# Altium footprint library JP.PcbLib: 182 footprints (part 4 of 12)
Each footprint in its own frame and in the unit in brackets; x right, y up, seen from the top. Pads: shape width x height; smd on the part's side, far side on the other; paste and mask are expansions set on the pad; w line width, h text height; cw(c..) or ccw(c..) is an arc to the next point about the centre after c.
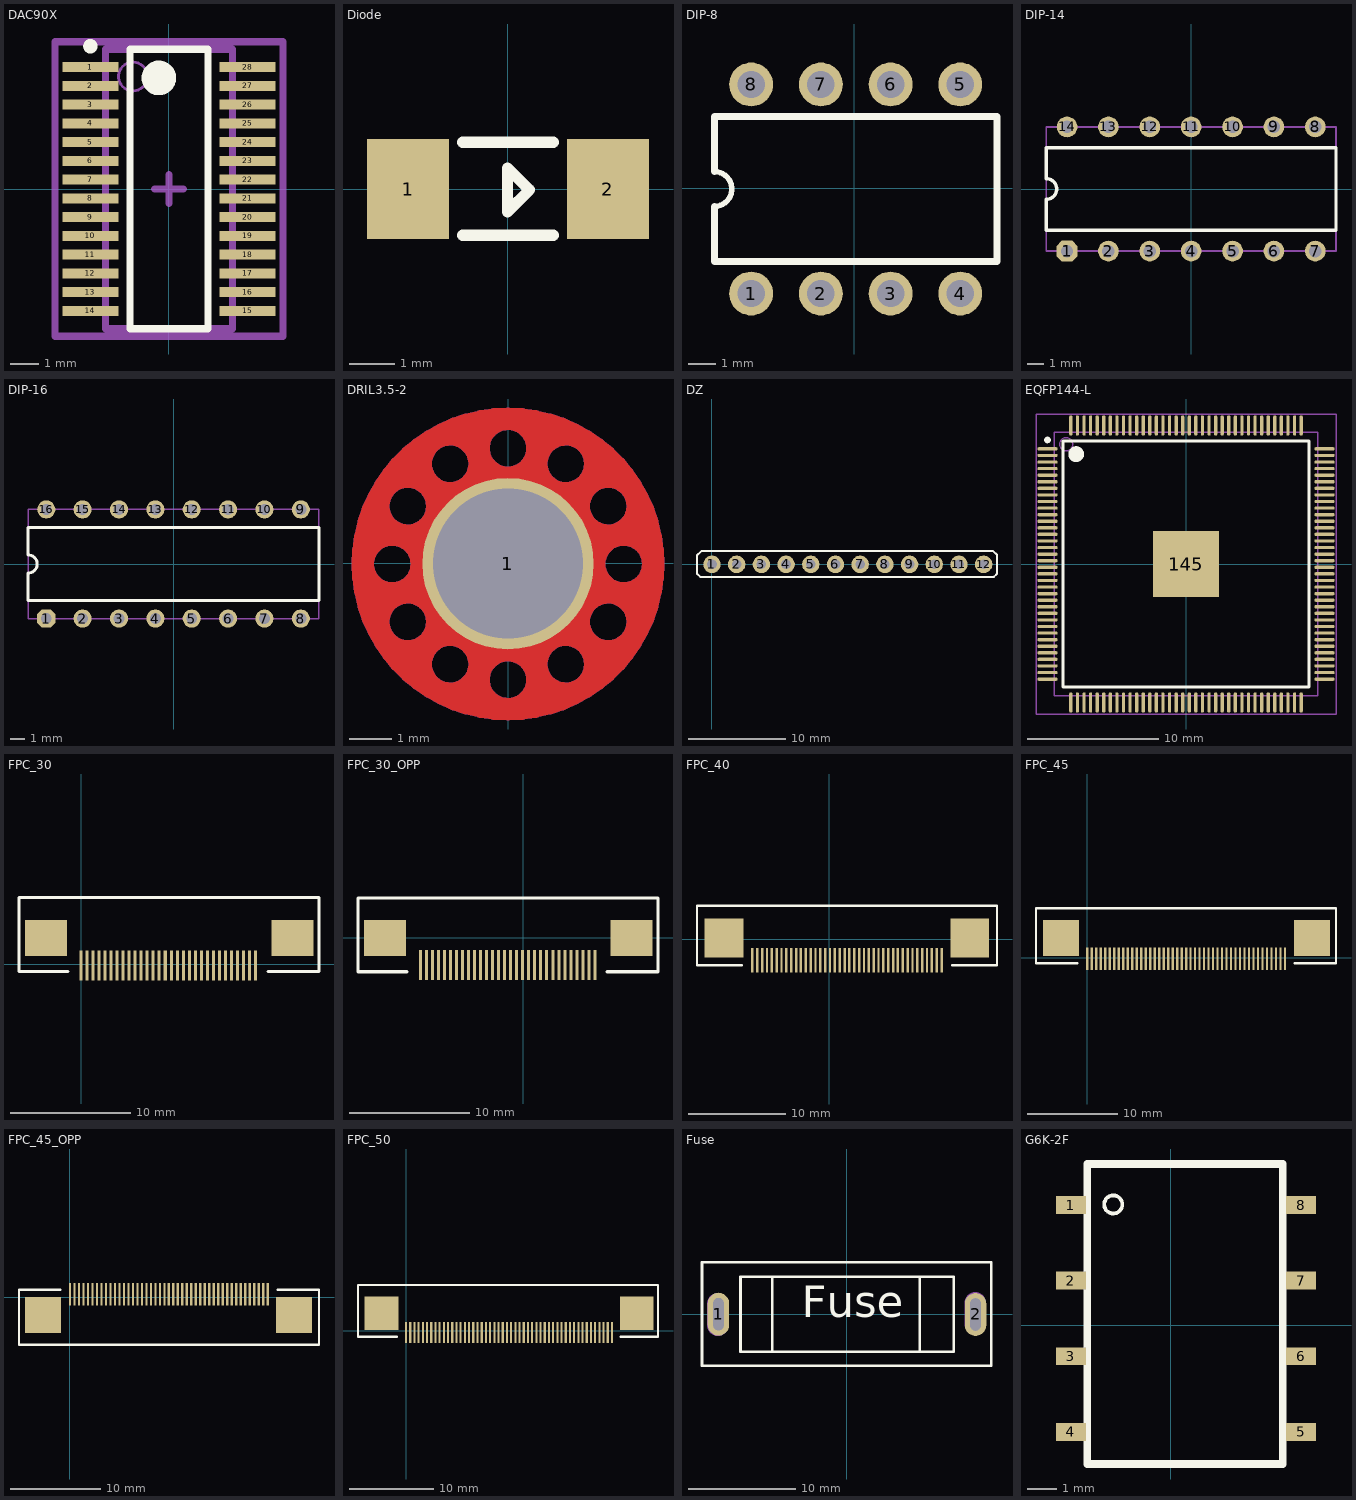
[diagram p3: the footprints below, top view; thin cyan lines are the x and y axes]

## DAC90X [mm] "SOP, 28-Leads, Body 9.7x4.4mm (max), Pitch 0.65mm, IPC Medium Density"
height 2.65
pads (28):
  rect 1.95x0.35 smd: 1(-2.725,4.225) 2(-2.725,3.575) 3(-2.725,2.925) 4(-2.725,2.275) 5(-2.725,1.625) 6(-2.725,0.975) 7(-2.725,0.325) 8(-2.725,-0.325) 9(-2.725,-0.975) 10(-2.725,-1.625) 11(-2.725,-2.275) 12(-2.725,-2.925) 13(-2.725,-3.575) 14(-2.725,-4.225) 15(2.725,-4.225) 16(2.725,-3.575) 17(2.725,-2.925) 18(2.725,-2.275) 19(2.725,-1.625) 20(2.725,-0.975) 21(2.725,-0.325) 22(2.725,0.325) 23(2.725,0.975) 24(2.725,1.625) 25(2.725,2.275) 26(2.725,2.925) 27(2.725,3.575) 28(2.725,4.225)
Top Overlay:
  circle w0.25: c-2.725,4.95 r0.125
  circle w0.6: c-0.35,3.85 r0.3
  lines w0.254: -1.35,-4.85 -1.35,4.85 1.35,4.85 1.35,-4.85 -1.35,-4.85
Mechanical 13:
  circle w0.1: c-1.25,3.9 r0.5
  lines w0.254: -2.2,-4.85 -2.2,4.85 2.2,4.85 2.2,-4.85 -2.2,-4.85
Mechanical 15:
  lines w0.254: -0.5,0 0.5,0 ; 0,-0.5 0,0.5 ; -3.95,-5.1 -3.95,5.1 3.95,5.1 3.95,-5.1 -3.95,-5.1
3D body: height 2.65, standoff 0.1, extent -2.2,-4.85 2.2,4.85

## Diode [mm] "Chip Resistor; Body 5.0 x 2.5 mm (LxW typ)"
height 0.6
pads (2):
  rect 1.8x2.2 smd: 1(-2.2,0) 2(2.2,0)
Top Overlay:
  lines w0.25: -0.01,0.45 -0.01,-0.5 0.47,-0.02 ; -0.01,0.46 0.45,0
  lines w0.254: -1,-1.02 1,-1.02 ; -1,1.03 1,1.03
3D body: height 2, standoff 0, extent -3.202,-1.202 3.202,1.202

## DIP-8 [mm]
pads (8):
  round 1.6 hole 1: 1(-3.763,-3.834) 2(-1.223,-3.834) 3(1.317,-3.834) 4(3.857,-3.834) 5(3.857,3.786) 6(1.317,3.786) 7(-1.223,3.786) 8(-3.763,3.786)
Top Overlay:
  lines w0.2: -5.103,-0.659 ccw(c-5.103,-0.024) -5.103,0.611
  lines w0.254: -5.103,-0.659 -5.103,-2.674 5.197,-2.674 5.197,2.626 -5.103,2.626 -5.103,0.611

## DIP-14 [mil]
pads (14):
  oct 50x50 hole 30: 1(-300,-150)
  round 50 hole 30: 2(-200,-150) 3(-100,-150) 4(0,-150) 5(100,-150) 6(200,-150) 7(300,-150) 8(300,150) 9(200,150) 10(100,150) 11(0,150) 12(-100,150) 13(-200,150) 14(-300,150)
Top Overlay:
  lines w8: -350,-100 350,-100 350,100 -350,100 -350,25 cw(c-350,0) -350,-25 -350,-100
Mechanical 1:
  lines w4: -350,-150 -350,150 350,150 350,-150 -350,-150

## DIP-16 [mil]
pads (16):
  oct 50x50 hole 30: 1(-350,-150)
  round 50 hole 30: 2(-250,-150) 3(-150,-150) 4(-50,-150) 5(50,-150) 6(150,-150) 7(250,-150) 8(350,-150) 9(350,150) 10(250,150) 11(150,150) 12(50,150) 13(-50,150) 14(-150,150) 15(-250,150) 16(-350,150)
Top Overlay:
  lines w8: -400,-100 -400,-25 ccw(c-400,0) -400,25 -400,100 400,100 400,-100 -400,-100
Mechanical 1:
  lines w4: -400,-150 -400,150 400,150 400,-150 -400,-150

## DRIL3.5-2 [mm]
height 2.1
pads (1):
  round 4 hole 3.5: 1(-0.006,-0.006)
Top Layer:
  circle w0.3: c2.694,-0.014 r0.575
  circle w0.3: c1.344,2.325 r0.575
  circle w0.3: c-1.356,2.325 r0.575
  circle w0.3: c-2.706,-0.014 r0.575
  circle w0.3: c-2.344,-1.364 r0.575
  circle w0.3: c-2.344,1.336 r0.575
  circle w0.3: c1.344,-2.352 r0.575
  circle w0.3: c-1.356,-2.352 r0.575
  circle w0.3: c2.332,-1.364 r0.575
  circle w0.3: c-0.006,2.686 r0.575
  circle w0.3: c2.332,1.336 r0.575
  circle w0.3: c-0.006,-2.714 r0.575
  lines w0.25: -3.505,-0.09 -2.69,-0.905 ; -3.504,-0.125 -3.267,0.113 ; -3.501,0.179 -2.75,0.929 ; -3.499,0.204 -3.281,-0.014 ; -3.483,-0.412 -2.834,-1.062 ; -3.484,-0.405 -3.257,-0.178 ; -3.472,0.477 -3.226,0.231 ; -3.466,0.513 -2.872,1.108 ; -3.445,-0.665 -3.154,-0.374 ; -3.426,0.731 -3.1,0.405 ; -3.423,-0.772 -2.913,-1.282 ; -3.389,-0.91 -2.992,-0.513 ; -3.387,0.893 -2.919,1.361 ; -3.365,0.97 -2.916,0.521 ; -3.32,-1.14 -2.765,-0.586 ; -3.301,-1.194 -2.84,-1.655 ; -3.291,1.196 -2.654,0.559 ; -3.238,-1.358 -2.312,-0.433 ; -3.229,1.35 -1.37,3.21 ; -3.204,1.409 -2.84,1.045 ; -3.144,-1.564 -2.919,-1.339 ; -3.106,1.611 -2.913,1.418 ; -3.045,-1.75 -1.742,-3.053 ; -3.039,-1.76 -2.872,-1.592 ; -2.998,1.803 -2.834,1.638 ; -2.925,-1.945 -2.75,-1.771 ; -2.88,1.985 -2.69,1.795 ; -2.842,2.038 -2.058,2.822 ; -2.832,0.547 -2.572,0.808 ; -2.801,-2.121 -2.572,-1.892 ; -2.752,2.157 -2.488,1.893 ; -2.706,-0.589 -2.488,-0.807 ; -2.667,-2.287 -2.318,-1.938 ; -2.635,-1.86 -1.852,-2.643 ; -2.636,0.84 0.848,-2.643 ; -2.615,2.32 -2.183,1.888 ; -2.542,0.537 -2.318,0.762 ; -2.469,2.474 2.481,-2.476 ; -2.461,-0.534 -2.183,-0.812 ; -2.372,-2.593 -1.866,-2.087 ; -2.369,-0.789 0.769,2.349 ; -2.369,1.911 -1.931,2.349 ; -2.345,0.434 -0.454,2.326 ; -2.313,2.618 -1.923,2.228 ; -2.262,-1.933 -1.925,-2.27 ; -2.262,0.767 0.775,-2.27 ; -2.211,-2.732 -1.924,-2.444 ; -2.207,0.272 -0.292,2.187 ; -2.171,-0.224 -0.216,-2.179 ; -2.149,2.754 -1.902,2.506 ; -2.133,0.038 0.046,-2.141 ; -2.134,0.045 -0.065,2.114 ; -2.116,-0.836 0.816,2.096 ; -2.116,1.864 -1.884,2.096 ; -2.042,-1.853 -1.845,-2.05 ; -2.042,0.847 0.855,-2.05 ; -2.041,-2.861 -1.841,-2.661 ; -1.975,2.88 -1.793,2.698 ; -1.937,-0.958 0.938,1.917 ; -1.937,1.742 -1.762,1.917 ; -1.885,-1.71 -1.702,-1.893 ; -1.885,0.99 0.998,-1.893 ; -1.861,-2.982 -1.696,-2.816 ; -1.816,-1.137 1.117,1.796 ; -1.816,1.563 -1.583,1.796 ; -1.792,-1.203 -1.195,-1.8 ; -1.792,1.497 1.505,-1.8 ; -1.792,2.997 -1.627,2.832 ; -1.788,-1.507 -1.5,-1.795 ; -1.788,1.193 1.2,-1.795 ; -1.77,-1.39 1.371,1.75 ; -1.77,1.31 -1.329,1.75 ; -1.672,-3.092 -1.491,-2.911 ; -1.647,-2.848 -1.186,-3.309 ; -1.622,-1.842 1.822,1.602 ; -1.598,3.103 -1.393,2.898 ; -1.472,-3.192 -1.178,-2.899 ; -1.453,1.758 1.765,-1.46 ; -1.394,3.199 3.207,-1.402 ; -1.381,2.899 -0.913,3.367 ; -1.274,-2.921 -0.764,-3.431 ; -1.264,-1.784 1.765,1.244 ; -1.261,-3.281 -0.567,-2.587 ; -1.179,3.284 -0.581,2.686 ; -1.174,1.779 1.787,-1.182 ; -1.127,2.852 -0.533,3.446 ; -1.054,-2.841 -0.404,-3.491 ; -1.047,-1.867 1.847,1.027 ; -1.038,-3.358 -0.557,-2.878 ; -0.983,1.887 1.895,-0.99 ; -0.951,3.356 -0.526,2.931 ; -0.949,2.731 -0.199,3.481 ; -0.897,-2.698 -0.082,-3.513 ; -0.892,-2.012 1.993,0.872 ; -0.849,2.054 2.061,-0.856 ; -0.828,2.552 -0.567,2.813 ; -0.809,-2.53 2.51,0.789 ; -0.804,-2.191 -0.526,-2.469 ; -0.802,-3.422 -0.454,-3.074 ; -0.799,-2.496 -0.581,-2.714 ; -0.797,-2.217 2.198,0.777 ; -0.782,2.287 2.295,-0.79 ; -0.782,2.298 -0.557,2.522 ; -0.71,3.415 -0.4,3.105 ; -0.551,-3.471 -0.292,-3.213 ; -0.453,3.458 -0.216,3.221 ; -0.4,-2.295 -2.287,-0.408 0.388,2.267 ; -0.282,-3.503 -0.065,-3.286 ; -0.177,3.482 0.046,3.259 ; -0.132,-2.153 2.133,0.113 ; -0.132,3.247 0.105,3.485 ; -0.006,-3.289 0.212,-3.507 ; -0.006,2.111 2.119,-0.014 ; 0.007,-3.514 0.388,-3.133 ; 0.121,3.484 0.907,2.698 ; 0.158,-2.163 2.143,-0.178 ; 0.158,3.237 0.385,3.464 ; 0.239,-3.234 0.484,-3.479 ; 0.239,2.166 2.174,0.231 ; 0.322,-3.498 1.004,-2.816 ; 0.355,-2.266 2.246,-0.374 ; 0.355,3.134 0.645,3.425 ; 0.448,3.457 1.073,2.832 ; 0.493,-2.428 0.834,-2.087 ; 0.493,2.972 0.89,3.37 ; 0.529,-2.924 0.978,-3.373 ; 0.529,2.476 0.777,2.228 ; 0.567,-2.662 1.203,-3.298 ; 0.566,-2.655 0.776,-2.444 ; 0.567,2.738 0.798,2.506 ; 0.566,2.745 1.12,3.3 ; 0.673,-3.447 1.209,-2.911 ; 0.739,-3.434 0.413,-3.108 0.859,-2.661 ; 0.817,3.388 1.307,2.898 ; 1.053,-2.848 1.416,-3.212 ; 1.078,-1.842 1.822,-1.098 ; 1.079,-3.341 1.522,-2.899 ; 1.247,1.758 1.765,1.24 ; 1.253,3.252 3.26,1.245 ; 1.319,2.899 1.544,3.124 ; 1.338,3.218 0.413,2.292 2.3,0.405 ; 1.426,-2.921 1.619,-3.114 ; 1.436,-1.784 1.765,-1.456 ; 1.526,1.779 1.787,1.518 ; 1.573,2.852 1.74,3.02 ; 1.594,-3.127 3.107,-1.613 ; 1.646,-2.841 1.81,-3.005 ; 1.653,-1.867 1.847,-1.673 ; 1.717,1.887 1.895,1.71 ; 1.751,2.731 1.925,2.905 ; 1.803,-2.698 1.992,-2.887 ; 1.808,-2.012 1.993,-1.828 ; 1.851,2.054 2.061,1.844 ; 1.854,2.951 2.959,1.846 ; 1.872,2.552 2.101,2.781 ; 1.891,-2.53 2.51,-1.911 ; 1.896,-2.191 2.327,-2.622 ; 1.901,-2.496 2.164,-2.759 ; 1.903,-2.217 2.198,-1.923 ; 1.918,2.287 2.295,1.91 ; 1.918,2.298 2.268,2.647 ; 2.067,-0.854 2.408,-0.513 ; 2.067,1.846 2.573,2.352 ; 2.235,-1.931 2.626,-2.321 ; 2.235,0.769 2.484,0.521 ; 2.424,-0.796 2.635,-0.586 ; 2.424,1.904 2.712,2.191 ; 2.514,-1.909 2.761,-2.156 ; 2.514,0.791 2.746,0.559 ; 2.568,0.547 3.261,1.241 ; 2.641,-0.879 3.088,-0.433 ; 2.641,1.821 2.842,2.021 ; 2.694,-0.589 3.292,-1.187 ; 2.706,-1.801 2.888,-1.983 ; 2.706,0.899 3.492,0.113 ; 2.796,-1.024 3.478,-0.342 ; 2.796,1.676 2.962,1.841 ; 2.839,-1.634 3.004,-1.799 ; 2.839,1.066 3.464,0.441 ; 2.858,0.537 3.338,1.018 ; 2.879,-1.541 3.321,-1.099 ; 2.879,1.159 3.172,1.452 ; 2.891,-1.229 3.427,-0.693 ; 2.891,1.471 3.072,1.652 ; 2.906,-1.401 3.111,-1.606 ; 2.906,1.299 3.396,0.809 ; 2.939,-0.534 3.364,-0.959 ; 3.055,0.434 3.402,0.782 ; 3.193,0.272 3.451,0.531 ; 3.229,-0.224 3.465,-0.46 ; 3.267,0.038 3.49,-0.185 ; 3.266,0.045 3.483,0.263 ; 3.422,-0.717 3.113,-0.408 3.494,-0.026 ; -2.524,-2.445 2.425,2.504 -2.524,-2.445
  lines w0.3: -3.506,-0.014 cw(c-0.006,-0.014) -0.006,3.486 cw(c-0.006,-0.014) 3.494,-0.014 cw(c-0.006,-0.014) -0.006,-3.514 cw(c-0.006,-0.014) -3.506,-0.014
Bottom Layer:
  circle w0.3: c2.694,-0.014 r0.575
  circle w0.3: c1.344,2.325 r0.575
  circle w0.3: c-1.356,2.325 r0.575
  circle w0.3: c-2.706,-0.014 r0.575
  circle w0.3: c-2.344,-1.364 r0.575
  circle w0.3: c-2.344,1.336 r0.575
  circle w0.3: c1.344,-2.352 r0.575
  circle w0.3: c-1.356,-2.352 r0.575
  circle w0.3: c2.332,-1.364 r0.575
  circle w0.3: c-0.006,2.686 r0.575
  circle w0.3: c2.332,1.336 r0.575
  circle w0.3: c-0.006,-2.714 r0.575
  lines w0.25: -3.505,-0.09 -2.69,-0.905 ; -3.504,-0.125 -3.267,0.113 ; -3.501,0.179 -2.75,0.929 ; -3.499,0.204 -3.281,-0.014 ; -3.483,-0.412 -2.834,-1.062 ; -3.484,-0.405 -3.257,-0.178 ; -3.472,0.477 -3.226,0.231 ; -3.466,0.513 -2.872,1.108 ; -3.445,-0.665 -3.154,-0.374 ; -3.426,0.731 -3.1,0.405 ; -3.423,-0.772 -2.913,-1.282 ; -3.389,-0.91 -2.992,-0.513 ; -3.387,0.893 -2.919,1.361 ; -3.365,0.97 -2.916,0.521 ; -3.32,-1.14 -2.765,-0.586 ; -3.301,-1.194 -2.84,-1.655 ; -3.291,1.196 -2.654,0.559 ; -3.238,-1.358 -2.312,-0.433 ; -3.229,1.35 -1.37,3.21 ; -3.204,1.409 -2.84,1.045 ; -3.144,-1.564 -2.919,-1.339 ; -3.106,1.611 -2.913,1.418 ; -3.045,-1.75 -1.742,-3.053 ; -3.039,-1.76 -2.872,-1.592 ; -2.998,1.803 -2.834,1.638 ; -2.925,-1.945 -2.75,-1.771 ; -2.88,1.985 -2.69,1.795 ; -2.842,2.038 -2.058,2.822 ; -2.832,0.547 -2.572,0.808 ; -2.801,-2.121 -2.572,-1.892 ; -2.752,2.157 -2.488,1.893 ; -2.706,-0.589 -2.488,-0.807 ; -2.667,-2.287 -2.318,-1.938 ; -2.635,-1.86 -1.852,-2.643 ; -2.636,0.84 0.848,-2.643 ; -2.615,2.32 -2.183,1.888 ; -2.542,0.537 -2.318,0.762 ; -2.469,2.474 2.481,-2.476 ; -2.461,-0.534 -2.183,-0.812 ; -2.372,-2.593 -1.866,-2.087 ; -2.369,-0.789 0.769,2.349 ; -2.369,1.911 -1.931,2.349 ; -2.345,0.434 -0.454,2.326 ; -2.313,2.618 -1.923,2.228 ; -2.262,-1.933 -1.925,-2.27 ; -2.262,0.767 0.775,-2.27 ; -2.211,-2.732 -1.924,-2.444 ; -2.207,0.272 -0.292,2.187 ; -2.171,-0.224 -0.216,-2.179 ; -2.149,2.754 -1.902,2.506 ; -2.133,0.038 0.046,-2.141 ; -2.134,0.045 -0.065,2.114 ; -2.116,-0.836 0.816,2.096 ; -2.116,1.864 -1.884,2.096 ; -2.042,-1.853 -1.845,-2.05 ; -2.042,0.847 0.855,-2.05 ; -2.041,-2.861 -1.841,-2.661 ; -1.975,2.88 -1.793,2.698 ; -1.937,-0.958 0.938,1.917 ; -1.937,1.742 -1.762,1.917 ; -1.885,-1.71 -1.702,-1.893 ; -1.885,0.99 0.998,-1.893 ; -1.861,-2.982 -1.696,-2.816 ; -1.816,-1.137 1.117,1.796 ; -1.816,1.563 -1.583,1.796 ; -1.792,-1.203 -1.195,-1.8 ; -1.792,1.497 1.505,-1.8 ; -1.792,2.997 -1.627,2.832 ; -1.788,-1.507 -1.5,-1.795 ; -1.788,1.193 1.2,-1.795 ; -1.77,-1.39 1.371,1.75 ; -1.77,1.31 -1.329,1.75 ; -1.672,-3.092 -1.491,-2.911 ; -1.647,-2.848 -1.186,-3.309 ; -1.622,-1.842 1.822,1.602 ; -1.598,3.103 -1.393,2.898 ; -1.472,-3.192 -1.178,-2.899 ; -1.453,1.758 1.765,-1.46 ; -1.394,3.199 3.207,-1.402 ; -1.381,2.899 -0.913,3.367 ; -1.274,-2.921 -0.764,-3.431 ; -1.264,-1.784 1.765,1.244 ; -1.261,-3.281 -0.567,-2.587 ; -1.179,3.284 -0.581,2.686 ; -1.174,1.779 1.787,-1.182 ; -1.127,2.852 -0.533,3.446 ; -1.054,-2.841 -0.404,-3.491 ; -1.047,-1.867 1.847,1.027 ; -1.038,-3.358 -0.557,-2.878 ; -0.983,1.887 1.895,-0.99 ; -0.951,3.356 -0.526,2.931 ; -0.949,2.731 -0.199,3.481 ; -0.897,-2.698 -0.082,-3.513 ; -0.892,-2.012 1.993,0.872 ; -0.849,2.054 2.061,-0.856 ; -0.828,2.552 -0.567,2.813 ; -0.809,-2.53 2.51,0.789 ; -0.804,-2.191 -0.526,-2.469 ; -0.802,-3.422 -0.454,-3.074 ; -0.799,-2.496 -0.581,-2.714 ; -0.797,-2.217 2.198,0.777 ; -0.782,2.287 2.295,-0.79 ; -0.782,2.298 -0.557,2.522 ; -0.71,3.415 -0.4,3.105 ; -0.551,-3.471 -0.292,-3.213 ; -0.453,3.458 -0.216,3.221 ; -0.4,-2.295 -2.287,-0.408 0.388,2.267 ; -0.282,-3.503 -0.065,-3.286 ; -0.177,3.482 0.046,3.259 ; -0.132,-2.153 2.133,0.113 ; -0.132,3.247 0.105,3.485 ; -0.006,-3.289 0.212,-3.507 ; -0.006,2.111 2.119,-0.014 ; 0.007,-3.514 0.388,-3.133 ; 0.121,3.484 0.907,2.698 ; 0.158,-2.163 2.143,-0.178 ; 0.158,3.237 0.385,3.464 ; 0.239,-3.234 0.484,-3.479 ; 0.239,2.166 2.174,0.231 ; 0.322,-3.498 1.004,-2.816 ; 0.355,-2.266 2.246,-0.374 ; 0.355,3.134 0.645,3.425 ; 0.448,3.457 1.073,2.832 ; 0.493,-2.428 0.834,-2.087 ; 0.493,2.972 0.89,3.37 ; 0.529,-2.924 0.978,-3.373 ; 0.529,2.476 0.777,2.228 ; 0.567,-2.662 1.203,-3.298 ; 0.566,-2.655 0.776,-2.444 ; 0.567,2.738 0.798,2.506 ; 0.566,2.745 1.12,3.3 ; 0.673,-3.447 1.209,-2.911 ; 0.739,-3.434 0.413,-3.108 0.859,-2.661 ; 0.817,3.388 1.307,2.898 ; 1.053,-2.848 1.416,-3.212 ; 1.078,-1.842 1.822,-1.098 ; 1.079,-3.341 1.522,-2.899 ; 1.247,1.758 1.765,1.24 ; 1.253,3.252 3.26,1.245 ; 1.319,2.899 1.544,3.124 ; 1.338,3.218 0.413,2.292 2.3,0.405 ; 1.426,-2.921 1.619,-3.114 ; 1.436,-1.784 1.765,-1.456 ; 1.526,1.779 1.787,1.518 ; 1.573,2.852 1.74,3.02 ; 1.594,-3.127 3.107,-1.613 ; 1.646,-2.841 1.81,-3.005 ; 1.653,-1.867 1.847,-1.673 ; 1.717,1.887 1.895,1.71 ; 1.751,2.731 1.925,2.905 ; 1.803,-2.698 1.992,-2.887 ; 1.808,-2.012 1.993,-1.828 ; 1.851,2.054 2.061,1.844 ; 1.854,2.951 2.959,1.846 ; 1.872,2.552 2.101,2.781 ; 1.891,-2.53 2.51,-1.911 ; 1.896,-2.191 2.327,-2.622 ; 1.901,-2.496 2.164,-2.759 ; 1.903,-2.217 2.198,-1.923 ; 1.918,2.287 2.295,1.91 ; 1.918,2.298 2.268,2.647 ; 2.067,-0.854 2.408,-0.513 ; 2.067,1.846 2.573,2.352 ; 2.235,-1.931 2.626,-2.321 ; 2.235,0.769 2.484,0.521 ; 2.424,-0.796 2.635,-0.586 ; 2.424,1.904 2.712,2.191 ; 2.514,-1.909 2.761,-2.156 ; 2.514,0.791 2.746,0.559 ; 2.568,0.547 3.261,1.241 ; 2.641,-0.879 3.088,-0.433 ; 2.641,1.821 2.842,2.021 ; 2.694,-0.589 3.292,-1.187 ; 2.706,-1.801 2.888,-1.983 ; 2.706,0.899 3.492,0.113 ; 2.796,-1.024 3.478,-0.342 ; 2.796,1.676 2.962,1.841 ; 2.839,-1.634 3.004,-1.799 ; 2.839,1.066 3.464,0.441 ; 2.858,0.537 3.338,1.018 ; 2.879,-1.541 3.321,-1.099 ; 2.879,1.159 3.172,1.452 ; 2.891,-1.229 3.427,-0.693 ; 2.891,1.471 3.072,1.652 ; 2.906,-1.401 3.111,-1.606 ; 2.906,1.299 3.396,0.809 ; 2.939,-0.534 3.364,-0.959 ; 3.055,0.434 3.402,0.782 ; 3.193,0.272 3.451,0.531 ; 3.229,-0.224 3.465,-0.46 ; 3.267,0.038 3.49,-0.185 ; 3.266,0.045 3.483,0.263 ; 3.422,-0.717 3.113,-0.408 3.494,-0.026 ; -2.524,-2.445 2.425,2.504 -2.524,-2.445
  lines w0.3: -3.506,-0.014 cw(c-0.006,-0.014) -0.006,3.486 cw(c-0.006,-0.014) 3.494,-0.014 cw(c-0.006,-0.014) -0.006,-3.514 cw(c-0.006,-0.014) -3.506,-0.014
Top Solder:
  circle w1.8: c-0.006,-0.006 r2.872
Bottom Solder:
  circle w1.8: c-0.006,-0.006 r2.872

## DZ [mm]
pads (12):
  round 1.8 hole 1: 1(0,0) 2(2.54,0) 3(5.08,0) 4(7.62,0) 5(10.16,0) 6(12.7,0) 7(15.24,0) 8(17.78,0) 9(20.32,0) 10(22.86,0) 11(25.4,0) 12(27.94,0)
Top Overlay:
  lines w0.2: -1.24,-1.26 -1.2,-1.3 -0.76,-1.3 ; -1.19,-1.29 -1.24,-1.24 -1.25,-1.24 -1.54,-0.95 -1.54,0.91 -1.09,1.36 24.31,1.36 ; -0.77,-1.3 24.28,-1.3 ; -0.08,-1.29 -0.07,-1.3 ; 24.1,-1.3 28.99,-1.3 29.22,-1.07 29.23,-1.07 29.31,-0.99 29.31,0.98 29.17,1.12 ; 24.26,1.36 28.92,1.36 29.28,1

## EQFP144-L [mm]
pads (145):
  oval 1.55x0.25 smd: 1(-10.525,8.75) 2(-10.525,8.25) 3(-10.525,7.75) 4(-10.525,7.25) 5(-10.525,6.75) 6(-10.525,6.25) 7(-10.525,5.75) 8(-10.525,5.25) 9(-10.525,4.75) 10(-10.525,4.25) 11(-10.525,3.75) 12(-10.525,3.25) 13(-10.525,2.75) 14(-10.525,2.25) 15(-10.525,1.75) 16(-10.525,1.25) 17(-10.525,0.75) 18(-10.525,0.25) 19(-10.525,-0.25) 20(-10.525,-0.75) 21(-10.525,-1.25) 22(-10.525,-1.75) 23(-10.525,-2.25) 24(-10.525,-2.75) 25(-10.525,-3.25) 26(-10.525,-3.75) 27(-10.525,-4.25) 28(-10.525,-4.75) 29(-10.525,-5.25) 30(-10.525,-5.75) 31(-10.525,-6.25) 32(-10.525,-6.75) 33(-10.525,-7.25) 34(-10.525,-7.75) 35(-10.525,-8.25) 36(-10.525,-8.75) 73(10.525,-8.75) 74(10.525,-8.25) 75(10.525,-7.75) 76(10.525,-7.25) 77(10.525,-6.75) 78(10.525,-6.25) 79(10.525,-5.75) 80(10.525,-5.25) 81(10.525,-4.75) 82(10.525,-4.25) 83(10.525,-3.75) 84(10.525,-3.25) 85(10.525,-2.75) 86(10.525,-2.25) 87(10.525,-1.75) 88(10.525,-1.25) 89(10.525,-0.75) 90(10.525,-0.25) 91(10.525,0.25) 92(10.525,0.75) 93(10.525,1.25) 94(10.525,1.75) 95(10.525,2.25) 96(10.525,2.75) 97(10.525,3.25) 98(10.525,3.75) 99(10.525,4.25) 100(10.525,4.75) 101(10.525,5.25) 102(10.525,5.75) 103(10.525,6.25) 104(10.525,6.75) 105(10.525,7.25) 106(10.525,7.75) 107(10.525,8.25) 108(10.525,8.75)
  oval 0.25x1.55 smd: 37(-8.75,-10.525) 38(-8.25,-10.525) 39(-7.75,-10.525) 40(-7.25,-10.525) 41(-6.75,-10.525) 42(-6.25,-10.525) 43(-5.75,-10.525) 44(-5.25,-10.525) 45(-4.75,-10.525) 46(-4.25,-10.525) 47(-3.75,-10.525) 48(-3.25,-10.525) 49(-2.75,-10.525) 50(-2.25,-10.525) 51(-1.75,-10.525) 52(-1.25,-10.525) 53(-0.75,-10.525) 54(-0.25,-10.525) 55(0.25,-10.525) 56(0.75,-10.525) 57(1.25,-10.525) 58(1.75,-10.525) 59(2.25,-10.525) 60(2.75,-10.525) 61(3.25,-10.525) 62(3.75,-10.525) 63(4.25,-10.525) 64(4.75,-10.525) 65(5.25,-10.525) 66(5.75,-10.525) 67(6.25,-10.525) 68(6.75,-10.525) 69(7.25,-10.525) 70(7.75,-10.525) 71(8.25,-10.525) 72(8.75,-10.525) 109(8.75,10.525) 110(8.25,10.525) 111(7.75,10.525) 112(7.25,10.525) 113(6.75,10.525) 114(6.25,10.525) 115(5.75,10.525) 116(5.25,10.525) 117(4.75,10.525) 118(4.25,10.525) 119(3.75,10.525) 120(3.25,10.525) 121(2.75,10.525) 122(2.25,10.525) 123(1.75,10.525) 124(1.25,10.525) 125(0.75,10.525) 126(0.25,10.525) 127(-0.25,10.525) 128(-0.75,10.525) 129(-1.25,10.525) 130(-1.75,10.525) 131(-2.25,10.525) 132(-2.75,10.525) 133(-3.25,10.525) 134(-3.75,10.525) 135(-4.25,10.525) 136(-4.75,10.525) 137(-5.25,10.525) 138(-5.75,10.525) 139(-6.25,10.525) 140(-6.75,10.525) 141(-7.25,10.525) 142(-7.75,10.525) 143(-8.25,10.525) 144(-8.75,10.525)
  rect 5x5 smd: 145(0,0)
Top Overlay:
  circle w0.25: c-10.525,9.425 r0.125
  circle w0.6: c-8.35,8.35 r0.3
  lines w0.2: -9.35,-9.35 -9.35,9.35 9.35,9.35 9.35,-9.35 -9.35,-9.35
Mechanical 13:
  circle w0.1: c-9.1,9.1 r0.5
  lines w0.1: -10,-10 -10,10 10,10 10,-10 -10,-10
Mechanical 15:
  lines w0.1: -0.5,0 0.5,0 ; 0,-0.5 0,0.5 ; -11.4,-11.4 -11.4,11.4 11.4,11.4 11.4,-11.4 -11.4,-11.4
3D body: height 1.6, standoff 0, extent -10,-10 10,10

## FPC_30 [mm]
pads (32):
  rect 0.25x2.5 smd: 1(-0.017,-0.076) 2(0.483,-0.076) 3(0.983,-0.076) 4(1.483,-0.076) 5(1.983,-0.076) 6(2.483,-0.076) 7(2.983,-0.076) 8(3.483,-0.076) 9(3.983,-0.076) 10(4.483,-0.076) 11(4.983,-0.076) 12(5.483,-0.076) 13(5.983,-0.076) 14(6.483,-0.076) 15(6.983,-0.076) 16(7.483,-0.076) 17(7.983,-0.076) 18(8.483,-0.076) 19(8.983,-0.076) 20(9.483,-0.076) 21(9.983,-0.076) 22(10.483,-0.076) 23(10.983,-0.076) 24(11.483,-0.076) 25(11.983,-0.076) 26(12.483,-0.076) 27(12.983,-0.076) 28(13.483,-0.076) 29(13.983,-0.076) 30(14.483,-0.076)
  rect 3.5x3 smd: ""(-2.938,2.21) ""(17.56,2.21)
Top Overlay:
  lines w0.254: -1.117,-0.601 -5.18,-0.601 -5.18,5.549 19.77,5.549 19.77,-0.601 15.52,-0.601

## FPC_30_OPP [mm]
pads (32):
  rect 0.25x2.5 smd: 1(5.947,-2.284) 2(5.447,-2.284) 3(4.947,-2.284) 4(4.447,-2.284) 5(3.947,-2.284) 6(3.447,-2.284) 7(2.947,-2.284) 8(2.447,-2.284) 9(1.947,-2.284) 10(1.447,-2.284) 11(0.947,-2.284) 12(0.447,-2.284) 13(-0.053,-2.284) 14(-0.553,-2.284) 15(-1.053,-2.284) 16(-1.553,-2.284) 17(-2.053,-2.284) 18(-2.553,-2.284) 19(-3.053,-2.284) 20(-3.553,-2.284) 21(-4.053,-2.284) 22(-4.553,-2.284) 23(-5.053,-2.284) 24(-5.553,-2.284) 25(-6.053,-2.284) 26(-6.553,-2.284) 27(-7.053,-2.284) 28(-7.553,-2.284) 29(-8.053,-2.284) 30(-8.553,-2.284)
  rect 3.5x3 smd: ""(-11.508,-0.02) ""(8.99,-0.02)
Top Overlay:
  lines w0.254: -9.687,-2.831 -13.75,-2.831 -13.75,3.319 11.2,3.319 11.2,-2.831 6.95,-2.831

## FPC_40 [mm]
pads (42):
  rect 0.25x2.5 smd: 1(-7.935,-2.138) 2(-7.435,-2.138) 3(-6.935,-2.138) 4(-6.435,-2.138) 5(-5.935,-2.138) 6(-5.435,-2.138) 7(-4.935,-2.138) 8(-4.435,-2.138) 9(-3.935,-2.138) 10(-3.435,-2.138) 11(-2.935,-2.138) 12(-2.435,-2.138) 13(-1.935,-2.138) 14(-1.435,-2.138) 15(-0.935,-2.138) 16(-0.435,-2.138) 17(0.065,-2.138) 18(0.565,-2.138) 19(1.065,-2.138) 20(1.565,-2.138) 21(2.065,-2.138) 22(2.565,-2.138) 23(3.065,-2.138) 24(3.565,-2.138) 25(4.065,-2.138) 26(4.565,-2.138) 27(5.065,-2.138) 28(5.565,-2.138) 29(6.065,-2.138) 30(6.565,-2.138) 31(7.065,-2.138) 32(7.565,-2.138) 33(8.065,-2.138) 34(8.565,-2.138) 35(9.065,-2.138) 36(9.565,-2.138) 37(10.065,-2.138) 38(10.565,-2.138) 39(11.065,-2.138) 40(11.565,-2.138)
  rect 4x4 smd: ""(-10.856,0.162) ""(14.472,0.162)
Top Overlay:
  lines w0.254: -9.035,-2.663 -13.65,-2.663 -13.65,3.487 17.28,3.487 17.28,-2.663 12.69,-2.663

## FPC_45 [mm]
height 2.1
pads (47):
  rect 0.25x2.5 smd: 1(0.003,-0.086) 2(0.503,-0.086) 3(1.003,-0.086) 4(1.503,-0.086) 5(2.003,-0.086) 6(2.503,-0.086) 7(3.003,-0.086) 8(3.503,-0.086) 9(4.003,-0.086) 10(4.503,-0.086) 11(5.003,-0.086) 12(5.503,-0.086) 13(6.003,-0.086) 14(6.503,-0.086) 15(7.003,-0.086) 16(7.503,-0.086) 17(8.003,-0.086) 18(8.503,-0.086) 19(9.003,-0.086) 20(9.503,-0.086) 21(10.003,-0.086) 22(10.503,-0.086) 23(11.003,-0.086) 24(11.503,-0.086) 25(12.003,-0.086) 26(12.503,-0.086) 27(13.003,-0.086) 28(13.503,-0.086) 29(14.003,-0.086) 30(14.503,-0.086) 31(15.003,-0.086) 32(15.503,-0.086) 33(16.003,-0.086) 34(16.503,-0.086) 35(17.003,-0.086) 36(17.503,-0.086) 37(18.003,-0.086) 38(18.503,-0.086) 39(19.003,-0.086) 40(19.503,-0.086) 41(20.003,-0.086) 42(20.503,-0.086) 43(21.003,-0.086) 44(21.503,-0.086) 45(22.003,-0.086)
  rect 4x4 smd: ""(-2.918,2.2) ""(25.022,2.2)
Top Overlay:
  lines w0.254: -1.097,-0.611 -5.712,-0.611 -5.712,5.539 27.689,5.539 27.689,-0.611 23.103,-0.611

## FPC_45_OPP [mm]
height 2.1
pads (47):
  rect 0.25x2.5 smd: 1(0.016,0.316) 2(0.516,0.316) 3(1.016,0.316) 4(1.516,0.316) 5(2.016,0.316) 6(2.516,0.316) 7(3.016,0.316) 8(3.516,0.316) 9(4.016,0.316) 10(4.516,0.316) 11(5.016,0.316) 12(5.516,0.316) 13(6.016,0.316) 14(6.516,0.316) 15(7.016,0.316) 16(7.516,0.316) 17(8.016,0.316) 18(8.516,0.316) 19(9.016,0.316) 20(9.516,0.316) 21(10.016,0.316) 22(10.516,0.316) 23(11.016,0.316) 24(11.516,0.316) 25(12.016,0.316) 26(12.516,0.316) 27(13.016,0.316) 28(13.516,0.316) 29(14.016,0.316) 30(14.516,0.316) 31(15.016,0.316) 32(15.516,0.316) 33(16.016,0.316) 34(16.516,0.316) 35(17.016,0.316) 36(17.516,0.316) 37(18.016,0.316) 38(18.516,0.316) 39(19.016,0.316) 40(19.516,0.316) 41(20.016,0.316) 42(20.516,0.316) 43(21.016,0.316) 44(21.516,0.316) 45(22.016,0.316)
  rect 4x4 smd: ""(-3.003,-1.97) ""(24.937,-1.97)
Top Overlay:
  lines w0.254: -1.084,0.841 -5.67,0.841 -5.67,-5.309 27.731,-5.309 27.731,0.841 23.116,0.841

## FPC_50 [mm]
pads (52):
  rect 0.25x2.5 smd: 1(-0.004,-0.169) 2(0.496,-0.169) 3(0.996,-0.169) 4(1.496,-0.169) 5(1.996,-0.169) 6(2.496,-0.169) 7(2.996,-0.169) 8(3.496,-0.169) 9(3.996,-0.169) 10(4.496,-0.169) 11(4.996,-0.169) 12(5.496,-0.169) 13(5.996,-0.169) 14(6.496,-0.169) 15(6.996,-0.169) 16(7.496,-0.169) 17(7.996,-0.169) 18(8.496,-0.169) 19(8.996,-0.169) 20(9.496,-0.169) 21(9.996,-0.169) 22(10.496,-0.169) 23(10.996,-0.169) 24(11.496,-0.169) 25(11.996,-0.169) 26(12.496,-0.169) 27(12.996,-0.169) 28(13.496,-0.169) 29(13.996,-0.169) 30(14.496,-0.169) 31(14.996,-0.169) 32(15.496,-0.169) 33(15.996,-0.169) 34(16.496,-0.169) 35(16.996,-0.169) 36(17.496,-0.169) 37(17.996,-0.169) 38(18.496,-0.169) 39(18.996,-0.169) 40(19.496,-0.169) 41(19.996,-0.169) 42(20.496,-0.169) 43(20.996,-0.169) 44(21.496,-0.169) 45(21.996,-0.169) 46(22.496,-0.169) 47(22.996,-0.169) 48(23.496,-0.169) 49(23.996,-0.169) 50(24.496,-0.169)
  rect 4x4 smd: ""(-2.925,2.117) ""(27.428,2.117)
Top Overlay:
  lines w0.254: -1.104,-0.694 -5.719,-0.694 -5.719,5.456 29.968,5.456 29.968,-0.694 25.523,-0.694
3D body: height 1.5, standoff 0, extent -5.846,-0.821 30.095,5.583

## Fuse [mm]
pads (2):
  oval 2x4 hole 1 slot 3 at 90 deg: 1(-11.97,0.015) 2(11.97,-0.015)
Top Overlay:
  lines w0.25: -6.95,-3.345 -6.95,3.395 ; 6.77,-3.395 6.77,3.465 ; -13.54,-4.785 13.43,-4.785 13.43,4.845 -13.51,4.845 -13.51,-4.755 -13.54,-4.785 ; -9.92,-3.485 9.93,-3.485 9.93,3.495 -9.92,3.495 -9.92,-3.485
  text "Fuse" at -4.191,-1.27 h5.08
Mechanical 1:
  lines w1: -12.03,-0.975 -12.03,1.025 ; 11.94,-1.005 11.94,0.995
Mechanical 2:
  lines w2.016: -12.03,-1.005 -12.03,0.995 ; 11.94,-0.935 11.94,1.065

## G6K-2F [mm]
pads (8):
  rect 1x0.6 smd: 1(-3.36,4.03) 2(-3.36,1.49) 3(-3.36,-1.05) 4(-3.36,-3.59) 5(4.37,-3.59) 6(4.37,-1.05) 7(4.37,1.49) 8(4.37,4.03)
Top Overlay:
  circle w0.127: c-1.94,4.05 r0.304
  lines w0.254: -2.81,-4.67 3.75,-4.67 3.75,5.41 -2.81,5.41 -2.81,-4.67